# EAGLE library part MAX6349 (library MAXIM)
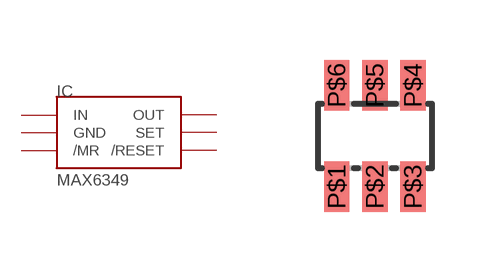
[diagram p1: symbol with the pads of SOT23-6; footprint SOT23-6]

Designator prefix IC

## MAX6349  [SOT23-6]
P$1  IN
P$2  GND
P$3  /MR
P$4  /RESET
P$5  SET
P$6  OUT

## Footprint SOT23-6 (pad centres in mm)
Small Outline Transistor
smd 0.635 x 1.27: P$1 -0.953,-1.27; P$2 0,-1.27; P$3 0.953,-1.27; P$4 0.953,1.27; P$5 0,1.27; P$6 -0.953,1.27